# Altium integrated library TEENSY_4.1.IntLib: 1 symbol
Pins are listed as number, name and electrical type; pins without a type are passive.

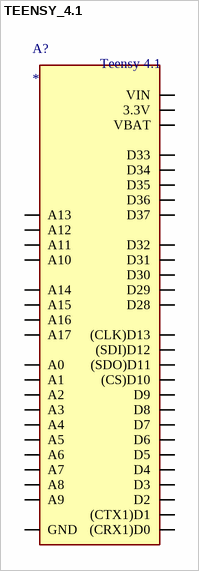
[diagram p0: symbol TEENSY_4.1]

## TEENSY_4.1
designator A?
Teensy 4.1 with VBAT <br> <a href="https://www.pjrc.com/store/teensy41.html#pins">Datasheet</a> <br> Requires ordering of: <ul> <li>2: 24 pin, 0.1" pitch female headers</li> <li>1:  2 pin, 0.1" pitch female headers</li> </ul>; MF: PJRC; SnapEDA_Link: https://www.snapeda.com/parts/Teensy%204.1/PJRC/view-part/?ref=snap; Package: None; Value: *; MP: Teensy 4.1; Check_prices: https://www.snapeda.com/parts/Teensy%204.1/PJRC/view-part/?ref=eda
footprint TEENSY_LONG_EXT
pins: 3V3 3.3V (power), 3V3@2 3.3V (power), 3V3@3 3.3V (power), AGND/GND GND (io), D0 (CRX1)D0 (io), D1 (CTX1)D1 (io), D2 (io), D3 (io), D4 (io), D5 (io), D6 (io), D7 (io), D8 (io), D9 (io), D10 (CS)D10 (io), D11 (SDO)D11 (io), D12 (SDI)D12 (io), D13 (CLK)D13 (io), D14 A0 (io), D15 A1 (io), D16 A2 (io), D17 A3 (io), D18 A4 (io), D19 A5 (io), D20 A6 (io), D21 A7 (io), D22 A8 (io), D23 A9 (io), D24 A10 (io), D25 A11 (io), D26 A12 (io), D27 A13 (io), D28 (io), D29 (io), D30 (io), D31 (io), D32 (io), D33 (io), D34 (io), D35 (io), D36 (io), D37 (io), D38 A14 (io), D39 A15 (io), D40 A16 (io), D41 A17 (io), GND (io), GND@2 GND (io), VBAT (power), VIN (power)